# Altium schematic symbol library TO-220AB.SchLib: 1 symbol
Pins are listed as number, name and electrical type; pins without a type are passive.

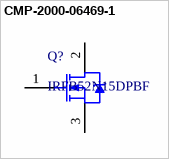
[diagram p0: symbol CMP-2000-06469-1]

## CMP-2000-06469-1
designator Q?, comment IRFB52N15DPBF
HEXFET (r) Power MOSFET, 150 V, -55 to 175 degC, 3-Pin TO-220AB, RoHS, Tube; Manufacturer: International Rectifier; Channel Type: N-Channel; Drain-to-Source Voltage [Vdss]: 150V; Drain-Source On Resistance-Max: 32mO; Qg Gate Charge: 60nC; Rated Power Dissipation: 3.8W; Package Description: 3-Pin Through Hole Device, Body 10.16 x 4.19 mm, Pitch 2.54 mm; Datasheet Version: 09/2010; Datasheet URL: http://www.infineon.com/dgdl/irfs52n15dpbf.pdf?fileId=5546d462533600a40153563a562221c1; Mounting Technology: ThroughHole; Package Reference: TO-220AB-3; Manufacturer URL: http://internationalrectifier.com/
footprint INTR-TO-220AB-3_A (FM, 3-Leads, Body 10.7x4.85mm, Pitch 2.54mm)
pins: 1 G, 2 D, 3 S